# EAGLE library part LED_RGB (library lightsuits)
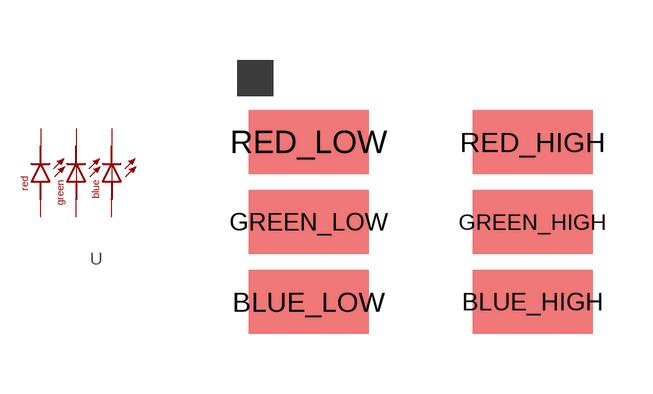
[diagram p7: symbol with the pads of 6-PLCC; footprint 6-PLCC]

Designator prefix -

## LED_RGB  [6-PLCC]
BLUE_HIGH  BLUE_HIGH  pas
BLUE_LOW  BLUE_LOW  pas
GREEN_HIGH  GREEN_HIGH  pas
GREEN_LOW  GREEN_LOW  pas
RED_HIGH  RED_HIGH  pas
RED_LOW  RED_LOW  pas

## Footprint 6-PLCC (pad centres in mm)
smd 3 x 1.6: BLUE_HIGH 2.8,-2; BLUE_LOW -2.8,-2; GREEN_HIGH 2.8,0; GREEN_LOW -2.8,0; RED_HIGH 2.8,2; RED_LOW -2.8,2